# EAGLE library part TPS7233 (library texas-instruments)
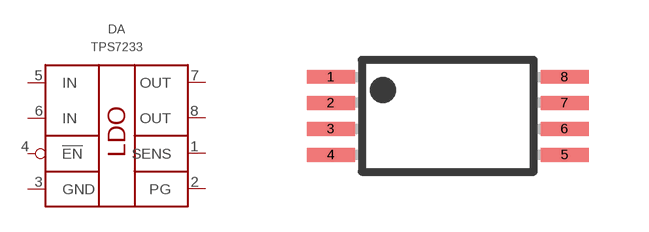
[diagram p0: symbol with the pads of TSSOP8; footprint TSSOP8]

Designator prefix DA

## TPS7233QPWR  [TSSOP8]
1  SENS  in
2  PG
3  GND  pwr
4  !EN  in
5  IN  pwr
6  IN  pwr
7  OUT  pwr
8  OUT  pwr

## Footprint TSSOP8 (pad centres in mm)
Plastic Small Outline
smd 1.2 x 0.35: 1 -2.925,0.975; 2 -2.925,0.325; 3 -2.925,-0.325; 4 -2.925,-0.975; 5 2.925,-0.975; 6 2.925,-0.325; 7 2.925,0.325; 8 2.925,0.975